# Altium footprint library Resistance.PcbLib: 24 footprints (part 2 of 2)
Each footprint in its own frame and in the unit in brackets; x right, y up, seen from the top. Pads: shape width x height; smd on the part's side, far side on the other; paste and mask are expansions set on the pad; w line width, h text height; cw(c..) or ccw(c..) is an arc to the next point about the centre after c.
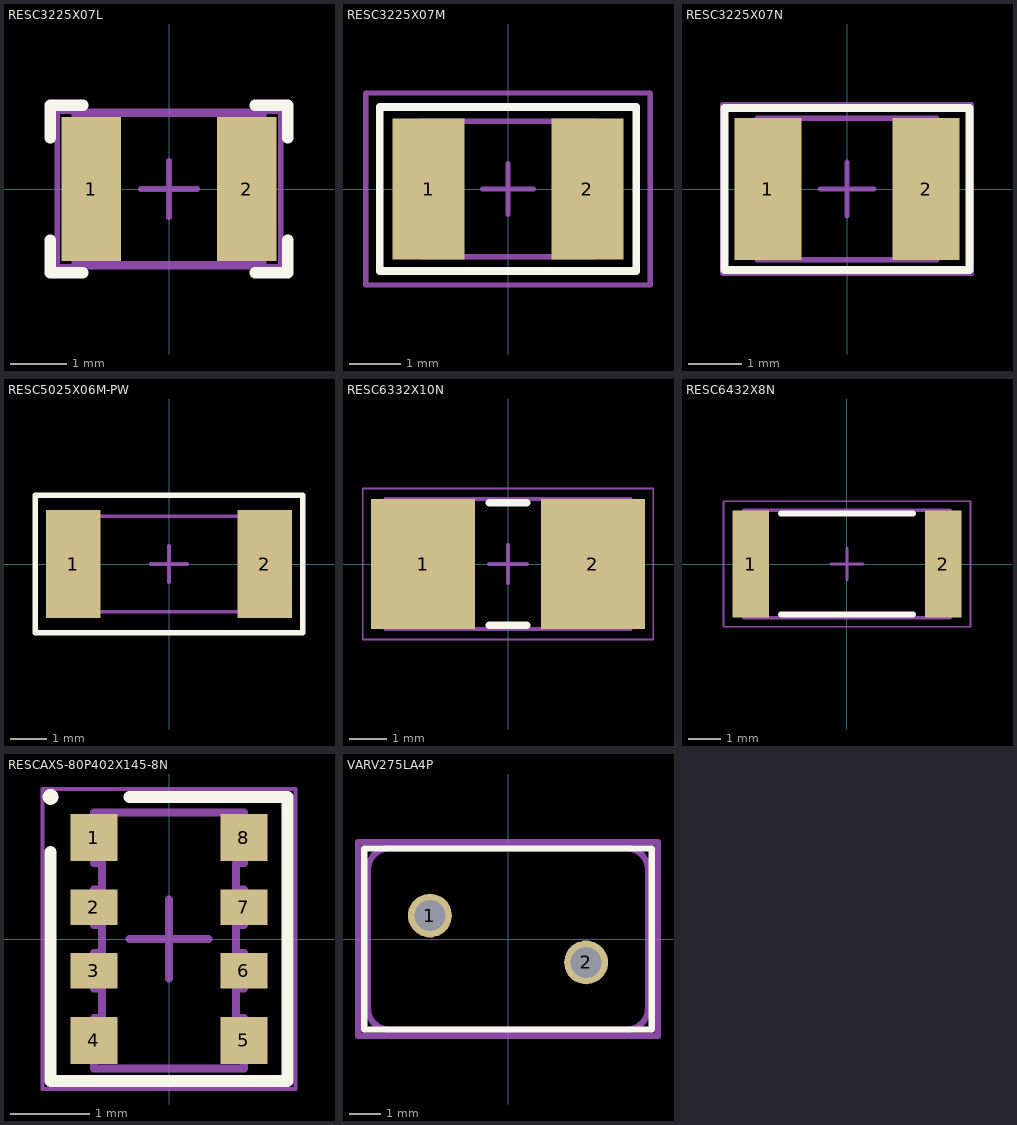
[diagram p1: the footprints below, top view; thin cyan lines are the x and y axes]

## RESC3225X07L [mm] "Chip Resistor, 2-Leads, Body 3,2x2,5mm, IPC High Density"
height 0.71
pads (2):
  rect 1.05x2.55 smd: 1(-1.375,0) 2(1.375,0)
Top Overlay:
  lines w0.2: -2.1,-0.9 -2.1,-1.48 -1.52,-1.48 ; -2.1,0.9 -2.1,1.48 -1.52,1.48 ; 1.52,-1.48 2.1,-1.48 2.1,-0.9 ; 1.52,1.48 2.1,1.48 2.1,0.9
Mechanical 7:
  text ".Designator" at -1.6,-0.4 h1.2
Mechanical 13:
  lines w0.1: -1.675,-1.32 -1.675,1.32 1.675,1.32 1.675,-1.32 -1.675,-1.32
Mechanical 15:
  lines w0.1: -0.5,0 0.5,0 ; 0,-0.5 0,0.5 ; -1.975,-1.375 -1.975,1.375 1.975,1.375 1.975,-1.375 -1.975,-1.375
3D body "User Library-RESC3225X06N.STEP": height 0.55, standoff 0, extent -1.6,-1.25 1.6,1.25

## RESC3225X07M [mm] "Chip Resistor, 2-Leads, Body 3,2x2,5mm, IPC Low Density"
height 0.71
pads (2):
  rect 1.4x2.75 smd: 1(-1.55,0) 2(1.55,0)
Top Overlay:
  lines w0.15: -2.5,-1.6 2.5,-1.6 2.5,1.6 -2.5,1.6 -2.5,-1.6
Mechanical 7:
  lines w0.1: -1.675,-1.32 1.675,-1.32 1.675,1.32 -1.675,1.32 -1.675,-1.32
  text ".Designator" at -1.5,-0.3 h1.2
Mechanical 9:
  lines w0.1: -2.775,-1.875 2.775,-1.875 2.775,1.875 -2.775,1.875 -2.775,-1.875
Mechanical 15:
  lines w0.1: -0.5,0 0.5,0 ; 0,-0.5 0,0.5
3D body "User Library-RESC3225X06N.STEP": height 0.55, standoff 0, extent -1.6,-1.25 1.6,1.25

## RESC3225X07N [mm] "Chip Resistor, 2-Leads, Body 3,2x2,5mm, IPC Medium Density"
height 0.71
pads (2):
  rect 1.25x2.65 smd: 1(-1.475,0) 2(1.475,0)
Top Overlay:
  lines w0.15: -2.29,-1.51 2.29,-1.51 2.29,1.51 -2.29,1.51 -2.29,-1.51
Mechanical 7:
  lines w0.1: -1.675,-1.32 1.675,-1.32 1.675,1.32 -1.675,1.32 -1.675,-1.32
  text ".Designator" at -1.4,-0.4 h1.2
Mechanical 9:
  lines w0.1: -2.325,-1.575 2.325,-1.575 2.325,1.575 -2.325,1.575 -2.325,-1.575
Mechanical 15:
  lines w0.1: -0.5,0 0.5,0 ; 0,-0.5 0,0.5
3D body "User Library-RESC3225X06N.STEP": height 0.55, standoff 0, extent -1.6,-1.25 1.6,1.25

## RESC5025X06M-PW [mm] "Chip Power Resistor, 2-Leads, Body 5,0x2,5mm, IPC Low Density"
height 0.6
pads (2):
  rect 1.5x3 smd: 1(-2.65,0) 2(2.65,0)
Top Overlay:
  lines w0.15: -3.7,-1.9 -3.7,1.9 3.7,1.9 3.7,-1.9 -3.7,-1.9
Mechanical 7:
  lines w0.1: -2.5,-1.32 -2.5,1.32 2.5,1.32 2.5,-1.32 -2.5,-1.32
  text ".Designator" at -1.5,-0.3 h1.2
Mechanical 9:
  lines w0.1: -3.7,-1.875 -3.7,1.875 3.7,1.875 3.7,-1.875 -3.7,-1.875
Mechanical 15:
  lines w0.1: -0.5,0 0.5,0 ; 0,-0.5 0,0.5
3D body "User Library-R2010-1.step": height 0.55, standoff 0, extent -2.5,-1.26 2.5,1.26

## RESC6332X10N [mm] "Chip Resistor, 2-Leads, Body 6,25x3,20mm, IPC Medium Density"
height 1.03
pads (2):
  rect 2.75x3.45 smd: 1(-2.25,0) 2(2.25,0)
Top Overlay:
  lines w0.2: -0.5,-1.625 0.5,-1.625 ; -0.5,1.625 0.5,1.625
Mechanical 7:
  lines w0.1: -3.25,-1.725 3.25,-1.725 3.25,1.725 -3.25,1.725 -3.25,-1.725
  text ".Designator" at -2.6,-0.3 h1.2
Mechanical 9:
  lines w0.05: -3.85,-2 3.85,-2 3.85,2 -3.85,2 -3.85,-2
  lines w0.1: -0.5,0 0.5,0 ; 0,-0.5 0,0.5
3D body "User Library-Chip 6332.step": height 0.65, standoff 0, extent -3.15,-1.6 3.15,1.6

## RESC6432X8N [mm] "SMD RESISTANCE POWER 2W"
height 0.65
pads (2):
  rect 1.15x3.35 smd: 1(-3,0) 2(3,0)
Top Overlay:
  lines w0.2: -2.05,-1.575 2.05,-1.575 ; -2.05,1.575 2.05,1.575
Mechanical 7:
  lines w0.1: -3.225,-1.675 -3.225,1.675 3.225,1.675 3.225,-1.675 -3.225,-1.675
  text ".Designator" at -1.4,-0.5 h1.2
Mechanical 9:
  lines w0.05: -3.85,-1.95 -3.85,1.95 3.85,1.95 3.85,-1.95 -3.85,-1.95
  lines w0.1: -0.5,0 0.5,0 ; 0,-0.5 0,0.5
3D body "User Library-res2512_body.step": height 0.62, standoff 0, extent -3.16,-1.6 3.16,1.6
3D body: height 0.65, standoff 0, extent -3.225,-1.675 -2.725,1.675
3D body: height 0.65, standoff 0, extent 2.725,-1.675 3.225,1.675

## RESCAXS-80P402X145-8N [mm] "Chip Array, ConvexS, 8-Leads, Pitch 0,80mm,  Body 4,02x1,45mm,  IPC Medium Density"
height 0.5
pads (8):
  rect 0.6x0.6 smd: 1(-0.95,1.285) 4(-0.95,-1.285) 5(0.95,-1.285) 8(0.95,1.285)
  rect 0.6x0.45 smd: 2(-0.95,0.4) 3(-0.95,-0.4) 6(0.95,-0.4) 7(0.95,0.4)
Top Overlay:
  circle w0.1: c-1.5,1.8 r0.05
  lines w0.15: -1.5,1.1 -1.5,-1.8 1.5,-1.8 1.5,1.8 -0.5,1.8
Mechanical 7:
  lines w0.1: -0.95,-1.64 -0.95,-1 -0.85,-1 -0.85,-0.625 -0.95,-0.625 -0.95,-0.175 -0.85,-0.175 -0.85,0.175 -0.95,0.175 -0.95,0.625 -0.85,0.625 -0.85,0.96 -0.95,0.96 -0.95,1.6 0.95,1.6 0.95,0.96 0.85,0.96 0.85,0.625 0.95,0.625 0.95,0.175 0.85,0.175 0.85,-0.175 0.95,-0.175 0.95,-0.625 0.85,-0.625 0.85,-1 0.95,-1 0.95,-1.64 -0.95,-1.64
  text ".Designator" at -0.4,-0.3 h1.2
Mechanical 9:
  lines w0.05: -1.6,-1.9 -1.6,1.9 1.6,1.9 1.6,-1.9 -1.6,-1.9
  lines w0.1: -0.5,0 0.5,0 ; 0,-0.5 0,0.5
3D body "User Library-CRA06P08.step": height 0.6, standoff 0, extent -0.8,-1.604 0.8,1.604

## VARV275LA4P [mm] "Varistors LA series diam 7mm 1200A 710Vc pitch 4mm"
height 12
pads (2):
  round 1.4 hole 1: 1(-2.5,0.749) 2(2.5,-0.749)
Top Overlay:
  lines w0.2: -4.6,-2.9 -4.6,2.9 4.6,2.9 4.6,-2.9 -4.6,-2.9
Mechanical 7:
  lines w0.2: -4.483,-2.217 ccw(c-3.8,-2.217) -4.283,-2.7 ccw(c-3.8,-2.217) -3.8,-2.9 3.8,-2.9 ccw(c3.8,-2.217) 4.283,-2.7 ccw(c3.8,-2.217) 4.483,-2.217 4.483,2.217 ccw(c3.8,2.217) 4.283,2.7 ccw(c3.8,2.217) 3.8,2.9 -3.8,2.9 ccw(c-3.8,2.217) -4.283,2.7 ccw(c-3.8,2.217) -4.483,2.217 -4.483,-2.217
  text ".Designator" at -3.9,-0.8 h1.2
Mechanical 9:
  lines w0.2: -4.8,-3.1 4.8,-3.1 4.8,3.1 -4.8,3.1 -4.8,-3.1
3D body "User Library-Varistor 7mm.step": height 11.99, standoff -3, extent -4.494,-2.8 4.494,2.8